# EAGLE library part 452403012014 (library WS-SLSV)
WS-SLSV SMT Mini Slide Switch, Same Side Connection 7.65 x 5.5 mm Material Properties Frame Material PA6T Frame Flammability Rating UL94 V-0 Frame Color Black Actuator Material LCP Actuator Flammability Rating UL94 V-0 Actuator Color Black Contact Material Copper Alloy Contact Plating Silver Terminal Material Copper Alloy Terminal Plating Silver General Information Operating Temperature -40 °C up to +85 °C Electrical Properties IR 300 mA VR 6 V (DC) Contact Resistance Initial 50 mΩ RISO 100 MΩ Withstanding Voltage 500 V (AC) Mechanical Properties Electrical Life 20000 Steps Connection Type Same Side Connection <https://www.we-online.com/components/media/o64640v209%20multi-WS-SLSV-452403012014.jpg> Details see: www.we-online.com/en/components/products/SLSV_7_65X_5_5_SMD_VERTICAL <www.we-online.com/catalog/SLSV_7_65X_5_5_SMD_VERTICAL/?utm_source=eagle_model&utm_medium=description_link&utm_campaign=eisos_eagle> Updated by yingchun,Shan 2020-02-25 2020(C) Würth Elektronik
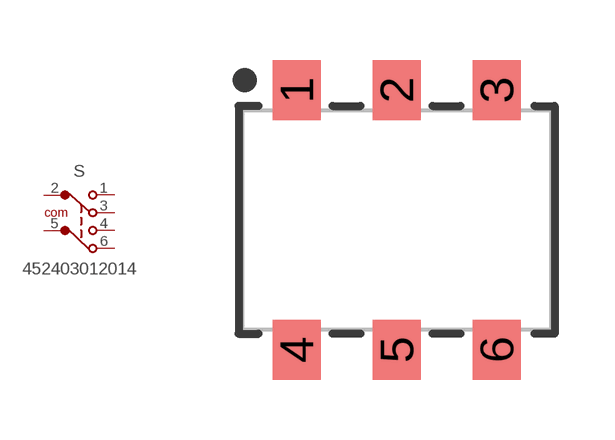
[diagram p1: symbol with the pads of 452403012014; footprint 452403012014]

Designator prefix S

## 452403012014 (DATASHEET-URL: https://www.we-online.com/redexpert/spec/452403012014?ae; IR: 300mA; OPERATION-FORCE: 350g; PART-NUMBER: 452403012014; SCHEMATIC: DPDT; VR: 6V (DC))  [452403012014]
1  1  pas
2  2  pas
3  3  pas
4  4  pas
5  5  pas
6  6  pas

## Footprint 452403012014 (pad centres in mm)
WS-SLSV SMT Mini Slide Switch, Same Side Connection 7.65 x 5.5 mm
smd 1.2 x 1.5: 1 -2.5,3.25; 2 0,3.25; 3 2.5,3.25; 4 -2.5,-3.25; 5 0,-3.25; 6 2.5,-3.25